# Altium integrated library ConnRibbon.IntLib: 2 symbols
Pins are listed as number, name and electrical type; pins without a type are passive.

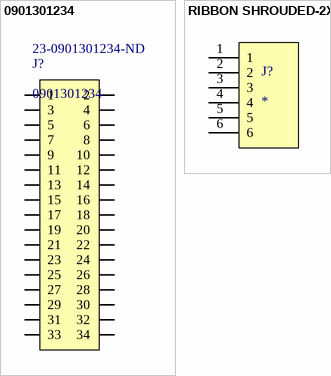
[diagram p0: symbols 0901301234 to RIBBON SHROUDED-2X3]

## 0901301234
designator J?  Supplier Part Number 1: 23-0901301234-ND
Conn Shrouded Header (4 Sides) HDR 34 POS 2.54mm Solder ST Thru-Hole C-Grid III™ Frame; Manufacturer: Molex; Max Voltage Rating (DC): 350V; Supplier 1: Digi-Key; Manufacturer Part Number: 0901301234; RoHS: Yes; Category: Headers and Wire Housings; Stock 1: 2585; Pricing 1: 1=6,40000, 10=5,60100, 80=4,53388, 945=3,73380 (USD); Contact Plating: Gold; Contact Material: Brass; Housing Color: Black; Housing Material: Polyester; Min Operating Temperature: -55°C; Max Operating Temperature: 125°C; Number of Rows: 2; Packaging: Tray; Termination: Solder; Orientation: Straight; Max Voltage Rating (AC): 350V; Length: 45.9mm; Pitch: 2.54mm; Depth: 9.75mm; ComponentLink1URL: http://components.arrow.com/part/dataview/2928545S8733785N3303?src-supplier=Arrow+Electronics; ComponentLink1Description: http://components.arrow.com/part/dataview/2928545S8733785N3303?src-supplier=Arrow+Electronics; ComponentLink2URL: http://components.arrow.com/part/dataview/0323_01054789?src-supplier=Arrow+Europe; ComponentLink2Description: http://components.arrow.com/part/dataview/0323_01054789?src-supplier=Arrow+Europe
footprint MOLEX_0901301234
pins: 1, 2, 3, 4, 5, 6, 7, 8, 9, 10, 11, 12, 13, 14, 15, 16, 17, 18, 19, 20, 21, 22, 23, 24, 25, 26, 27, 28, 29, 30, 31, 32, 33, 34

## RIBBON SHROUDED-2X3
designator J?
footprint 61200621621 (RIBBON SHROUDED 2X3-2.54)
pins: 1, 2, 3, 4, 5, 6